# EAGLE library part CON-AMP_6116075-4 (library SmartMeter)
CONN MOD JACK R/A 8P8C SHIELDED
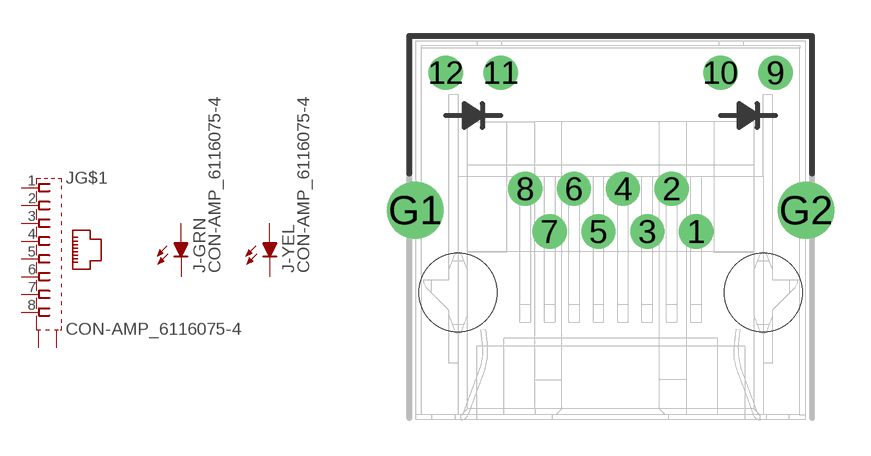
[diagram p13: symbol with the pads of CON-AMP_6116075-4; footprint CON-AMP_6116075-4]

Designator prefix J; gates -GRN=CON-AMP_LED -YEL=CON-AMP_LED G$1=CON-AMP_JACK8SH

## CON-AMP_6116075-4  [CON-AMP_6116075-4]
1  G$1:1  pas
2  G$1:2  pas
3  G$1:3  pas
4  G$1:4  pas
5  G$1:5  pas
6  G$1:6  pas
7  G$1:7  pas
8  G$1:8  pas
9  -YEL:C  pas
10  -YEL:A  pas
11  -GRN:C  pas
12  -GRN:A  pas
G1  G$1:S1  pas
G2  G$1:S2  pas

## Footprint CON-AMP_6116075-4 (pad centres in mm)
MODULAR JACK
drill 0.914: 1 3.556,2.54; 2 2.54,4.318; 3 1.524,2.54; 4 0.508,4.318; 5 -0.508,2.54; 6 -1.524,4.318; 7 -2.54,2.54; 8 -3.556,4.318; 9 6.86,9.14; 10 4.57,9.14; 11 -4.57,9.14; 12 -6.86,9.14
drill 1.575 pad 2.184: G1 -8.13,3.429; G2 8.13,3.429
hole 3.25 at -6.35,0
hole 3.25 at 6.35,0